# Altium schematic symbol library 691323300002.SchLib: 1 symbol
Pins are listed as number, name and electrical type; pins without a type are passive.

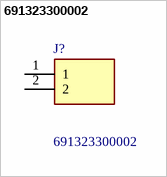
[diagram p0: symbol 691323300002]

## 691323300002
designator J?
WURTH ELEKTRONIK - 691323300002 - Terminal Block, Header, 3.81 mm, 2 Ways, 10 A, 300 V, Through Hole Vertical; Geometry.Height: 9.4mm; Mouser Part Number: 710-691323300002; Mouser Price/Stock: https://www.mouser.co.uk/ProductDetail/Wurth-Elektronik/691323300002?qs=sPbYRqrBIVninAwyXiV%2FaQ%3D%3D; Manufacturer_Name: Wurth Elektronik; Manufacturer_Part_Number: 691323300002; Datasheet Link: https://www.we-online.com/catalog/datasheet/691323300002.pdf
footprint 691323300002
pins: 1, 2